# EAGLE library part SP/CE (library pimoroni-connectors)
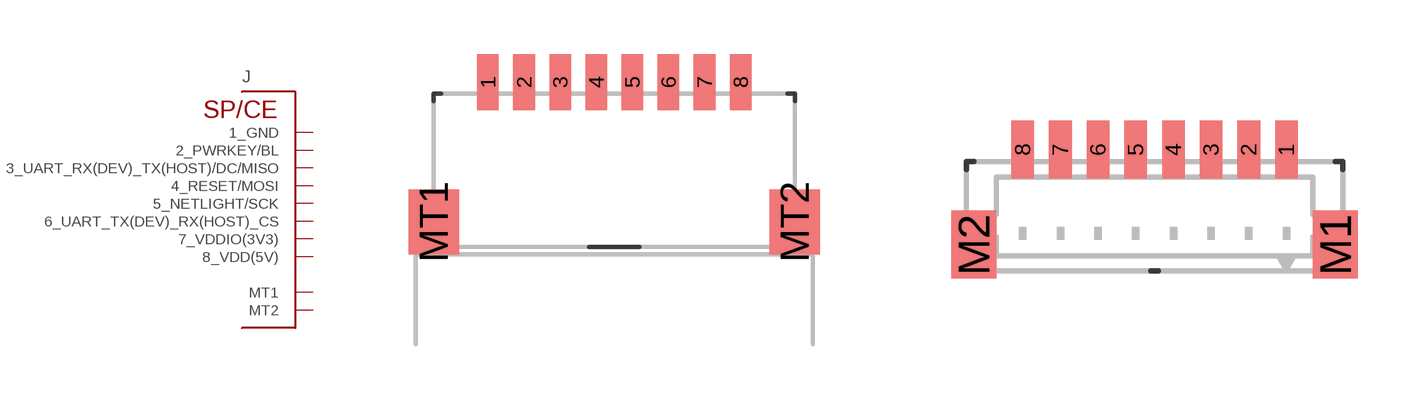
[diagram p26: symbol with the pads of JST_SH_1.0MM_8P; footprints JST_SH_1.0MM_8P, BM08B-SRSS-TB]

Designator prefix J

## SP/CESH8P  [JST_SH_1.0MM_8P]
1  1_GND
2  2_PWRKEY/BL
3  3_UART_RX(DEV)_TX(HOST)/DC/MISO
4  4_RESET/MOSI
5  5_NETLIGHT/SCK
6  6_UART_TX(DEV)_RX(HOST)_CS
7  7_VDDIO(3V3)
8  8_VDD(5V)
MT1  MT1
MT2  MT2

## SP/CEVERTICAL  [BM08B-SRSS-TB]
1  1_GND
2  2_PWRKEY/BL
3  3_UART_RX(DEV)_TX(HOST)/DC/MISO
4  4_RESET/MOSI
5  5_NETLIGHT/SCK
6  6_UART_TX(DEV)_RX(HOST)_CS
7  7_VDDIO(3V3)
8  8_VDD(5V)
M1  MT1
M2  MT2

## SP/CEALT  [JST_SH_1.0MM_8P_ALT]
Pads as for JST_SH_1.0MM_8P

## Footprint JST_SH_1.0MM_8P (pad centres in mm)
smd 0.6 x 1.55: 1 -3.5,4.775; 2 -2.5,4.775; 3 -1.5,4.775; 4 -0.5,4.775; 5 0.5,4.775; 6 1.5,4.775; 7 2.5,4.775; 8 3.5,4.775
smd 1.4 x 1.8: MT1 -5,0.9; MT2 5,0.9

## Footprint BM08B-SRSS-TB (pad centres in mm)
JST SH series header 1.00mm pitch disconnectable crimp style connectors, SMT vertical (top entry type), 8 pins
smd 0.6 x 1.55: 1 3.5,0; 2 2.5,0; 3 1.5,0; 4 0.5,0; 5 -0.5,0; 6 -1.5,0; 7 -2.5,0; 8 -3.5,0
smd 1.2 x 1.8: M1 4.8,-2.525; M2 -4.8,-2.525

## Footprint JST_SH_1.0MM_8P_ALT (pad centres in mm)
smd 0.6 x 1.35: 1 -3.5,0; 2 -2.5,0; 3 -1.5,0; 4 -0.5,0; 5 0.5,0; 6 1.5,0; 7 2.5,0; 8 3.5,0
smd 1.2 x 2: MT1 -4.8,-3.675; MT2 4.8,-3.675